# EAGLE library part ADS8422 (library ICs)
High performance, high cost, 16BIT, 4MSPS, fully differential ADC.
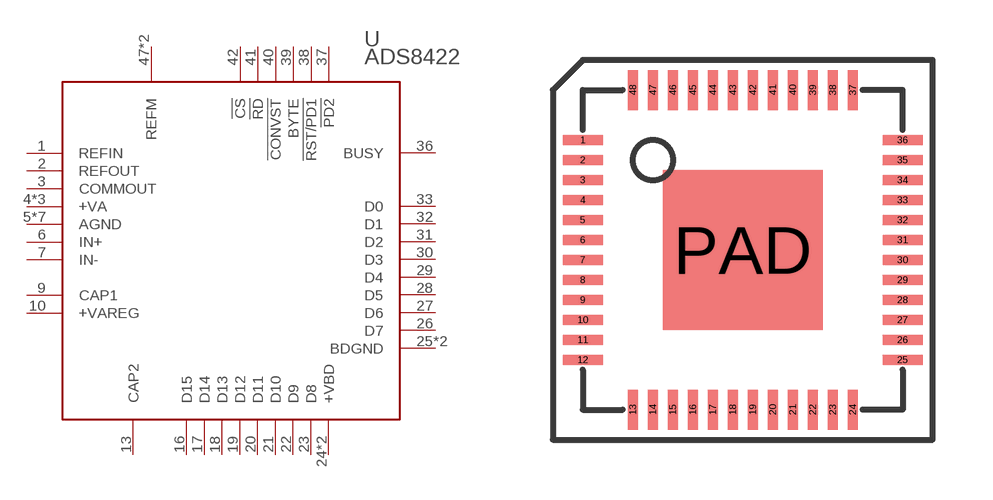
[diagram p16: symbol with the pads of QFP48_PAD; footprint QFP48_PAD]

Designator prefix U

## ADS8422IBPFBT (FARNELL: 1754736)  [QFP48_PAD]
1  REFIN
2  REFOUT
3  COMMOUT
4  +VA
5  AGND
6  IN+
7  IN-
8  AGND
9  CAP1
10  +VAREG
12  AGND
13  CAP2
14  AGND
15  AGND
16  D15
17  D14
18  D13
19  D12
20  D11
21  D10
22  D9
23  D8
24  +VBD
25  BDGND
26  D7
27  D6
28  D5
29  D4
30  D3
31  D2
32  D1
33  D0
34  +VBD
35  BDGND
36  BUSY
37  !PD2
38  !RST/PD1
39  BYTE
40  !CONVST
41  !RD
42  !CS
43  +VA
44  AGND
45  AGND
46  +VA
47  REFM
48  REFM

## Footprint QFP48_PAD (pad centres in mm)
smd 1 x 0.25: 1 -4,2.75; 2 -4,2.25; 3 -4,1.75; 4 -4,1.25; 5 -4,0.75; 6 -4,0.25; 7 -4,-0.25; 8 -4,-0.75; 9 -4,-1.25; 10 -4,-1.75; 11 -4,-2.25; 12 -4,-2.75; 25 4,-2.75; 26 4,-2.25; 27 4,-1.75; 28 4,-1.25; 29 4,-0.75; 30 4,-0.25; 31 4,0.25; 32 4,0.75; 33 4,1.25; 34 4,1.75; 35 4,2.25; 36 4,2.75
smd 0.25 x 1: 13 -2.75,-4; 14 -2.25,-4; 15 -1.75,-4; 16 -1.25,-4; 17 -0.75,-4; 18 -0.25,-4; 19 0.25,-4; 20 0.75,-4; 21 1.25,-4; 22 1.75,-4; 23 2.25,-4; 24 2.75,-4; 37 2.75,4; 38 2.25,4; 39 1.75,4; 40 1.25,4; 41 0.75,4; 42 0.25,4; 43 -0.25,4; 44 -0.75,4; 45 -1.25,4; 46 -1.75,4; 47 -2.25,4; 48 -2.75,4
smd 4 x 4: PAD 0,0